# EAGLE library part 51416-001LF (library XF2M-4015-1A)
Power to the Board 1P+24S+1P R/A RECPT Source: Datasheet <https://www.mouser.de/datasheet/2/18/51416-1359403.pdf>
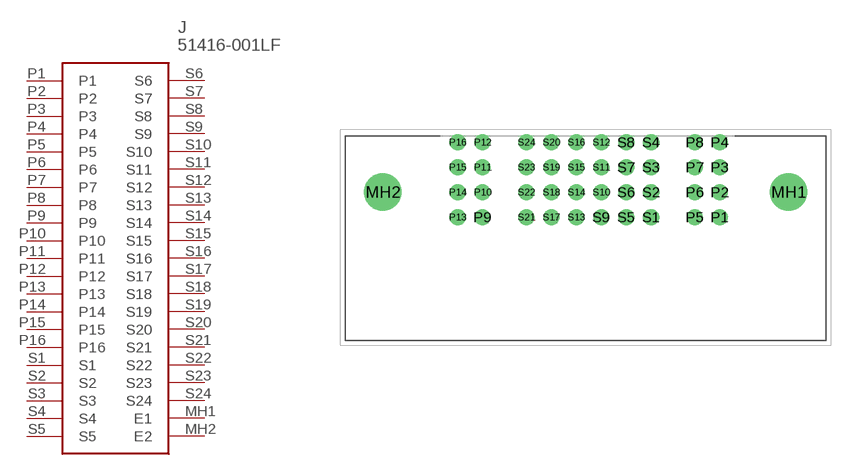
[diagram p2: symbol with the pads of 51416001LF; footprint 51416001LF]

Designator prefix J

## 51416-001LF (Description: Power to the Board 1P+24S+1P R/A RECPT; Height: 11.38mm; Manufacturer_Name: Amphenol; Manufacturer_Part_Number: 51416-001LF; Mouser_Part_Number: 649-51416-001LF)  [51416001LF]
MH1  E1
MH2  E2
P1  P1
P2  P2
P3  P3
P4  P4
P5  P5
P6  P6
P7  P7
P8  P8
P9  P9
P10  P10
P11  P11
P12  P12
P13  P13
P14  P14
P15  P15
P16  P16
S1  S1
S2  S2
S3  S3
S4  S4
S5  S5
S6  S6
S7  S7
S8  S8
S9  S9
S10  S10
S11  S11
S12  S12
S13  S13
S14  S14
S15  S15
S16  S16
S17  S17
S18  S18
S19  S19
S20  S20
S21  S21
S22  S22
S23  S23
S24  S24

## Footprint 51416001LF (pad centres in mm)
51416-001LF-2
drill 2.54 pad 3.81: MH1 13.98,2.54; MH2 -27.31,2.54
drill 1.09 pad 1.635: P1 6.99,0; P2 6.99,2.54; P3 6.99,5.08; P4 6.99,7.62; P5 4.45,0; P6 4.45,2.54; P7 4.45,5.08; P8 4.45,7.62; P9 -17.15,0; P10 -17.15,2.54; P11 -17.15,5.08; P12 -17.15,7.62; P13 -19.69,0; P14 -19.69,2.54; P15 -19.69,5.08; P16 -19.69,7.62; S1 0,0; S2 0,2.54; S3 0,5.08; S4 0,7.62; S5 -2.54,0; S6 -2.54,2.54; S7 -2.54,5.08; S8 -2.54,7.62; S9 -5.08,0; S10 -5.08,2.54; S11 -5.08,5.08; S12 -5.08,7.62; S13 -7.62,0; S14 -7.62,2.54; S15 -7.62,5.08; S16 -7.62,7.62; S17 -10.16,0; S18 -10.16,2.54; S19 -10.16,5.08; S20 -10.16,7.62; S21 -12.7,0; S22 -12.7,2.54; S23 -12.7,5.08; S24 -12.7,7.62